# Altium schematic symbol library Resistor_cement(5cm).SchLib: 1 symbol
Pins are listed as number, name and electrical type; pins without a type are passive.

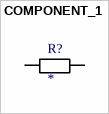
[diagram p0: symbol COMPONENT_1]

## COMPONENT_1
designator R?
footprint Resistor cement 5cm (50mm long)
pins: 1, 2